# Altium footprint library Maxim_Integrated_Linear_Regulators.PcbLib: 4 footprints
Each footprint in its own frame and in the unit in brackets; x right, y up, seen from the top. Pads: shape width x height; smd on the part's side, far side on the other; paste and mask are expansions set on the pad; w line width, h text height; cw(c..) or ccw(c..) is an arc to the next point about the centre after c.
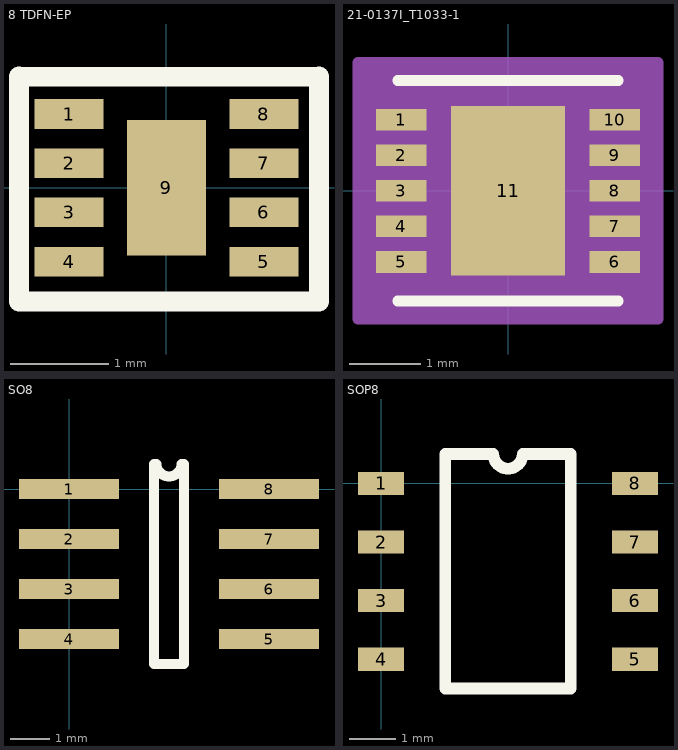
[diagram p0: the footprints below, top view; thin cyan lines are the x and y axes]

## 8 TDFN-EP [mm]
pads (9):
  rect 0.7x0.3 smd: 1(-0.99,0.75) 2(-0.99,0.25) 3(-0.99,-0.25) 4(-0.99,-0.75) 5(0.99,-0.75) 6(0.99,-0.25) 7(0.99,0.25) 8(0.99,0.75)
  rect 0.8x1.38 smd: 9(0,0)
Top Overlay:
  lines w0.2: -1.498,1.127 0.125,1.127 ; -1.498,1.131 -1.498,-1.155 1.55,-1.155 1.55,1.131 ; -0.125,1.127 1.55,1.127
3D body "MAX3x3mm_TDFN.STEP": height 0.8, standoff 0, extent -1.08,-1.05 1.06,1.05

## 21-0137I_T1033-1 [mil]
pads (11):
  rect 28x12 smd: 1(-59,39.37) 2(-59,19.68) 3(-59,0) 4(-59,-19.68) 5(-59,-39.37) 6(59,-39.37) 7(59,-19.68) 8(59,0) 9(59,19.68) 10(59,39.37)
  rect 63x94 smd paste-46.5: 11(0,0)
Top Overlay:
  lines w6: -61,-61 61,-61 ; -61,61 61,61
Top Paste:
  region: 31.5,47 -31.5,47 -31.5,-47 31.5,-47
Mechanical 13:
  lines w0: -12,61 ccw(c0,61) 12,61
Mechanical 15:
  region: 83,-71 -83,-71 -83,71 83,71
  lines w6: -83,-71 -83,71 83,71 83,-71 -83,-71
3D body "21-0137I_T1033-1.stp": height 32.01, standoff 0, extent -62.99,-60.99 63,61

## SO8 [mil]
pads (8):
  rect 100x20 smd: 1(0,0) 2(0,-50) 3(0,-100) 4(0,-150) 5(200,-150) 6(200,-100) 7(200,-50) 8(200,0)
Top Overlay:
  lines w10: 85,-175 85,25 87.5,25 ccw(c100,25) 112.5,25 115,25 115,-175 85,-175

## SOP8 [mm]
pads (8):
  rect 1x0.5 smd: 1(0,0) 2(0,-1.27) 3(0,-2.54) 4(0,-3.81) 5(5.5,-3.81) 6(5.5,-2.54) 7(5.5,-1.27) 8(5.5,0)
Top Overlay:
  lines w0.254: 1.389,-4.445 1.389,0.635 2.432,0.635 ccw(c2.75,0.635) 3.067,0.635 4.111,0.635 4.111,-4.445 1.389,-4.445